# Altium footprint library C4.PcbLib: 2 footprints
Each footprint in its own frame and in the unit in brackets; x right, y up, seen from the top. Pads: shape width x height; smd on the part's side, far side on the other; paste and mask are expansions set on the pad; w line width, h text height; cw(c..) or ccw(c..) is an arc to the next point about the centre after c.
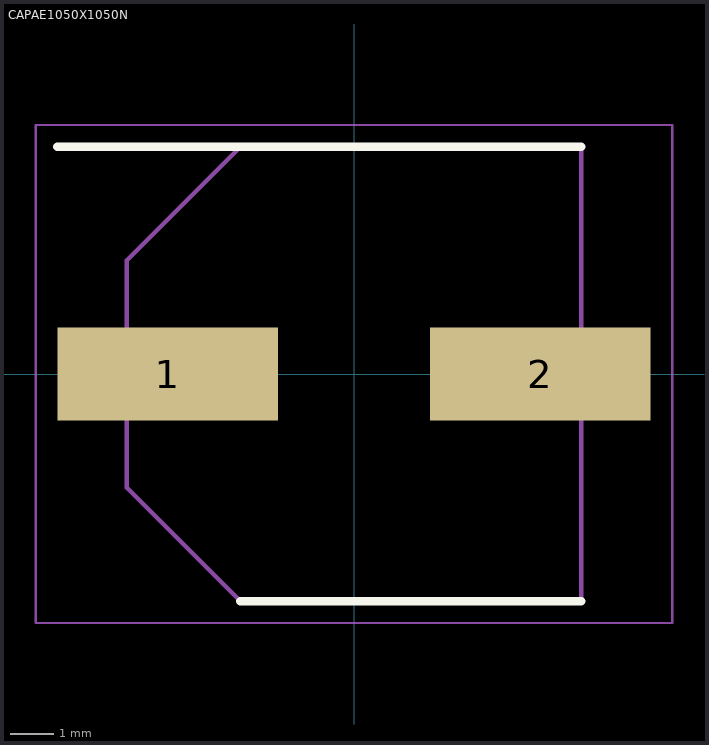
[diagram p0: the footprints below, top view; thin cyan lines are the x and y axes]

## CAPAE1050X1050N [mm]
pads (2):
  rect 5.1x2.15 smd: 1(-4.3,0) 2(4.3,0)
Top Overlay:
  lines w0.2: -6.85,5.25 5.25,5.25 ; -2.625,-5.25 5.25,-5.25
Mechanical 13:
  lines w0.1: -5.25,-2.625 -2.625,-5.25 5.25,-5.25 5.25,5.25 -2.625,5.25 -5.25,2.625 -5.25,-2.625
Mechanical 15:
  lines w0.05: -7.35,-5.75 -7.35,5.75 7.35,5.75 7.35,-5.75 -7.35,-5.75
3D body "MAL215097101E3.stp": height 10.5, standoff 0, extent -6.05,-5.25 6.05,5.25

## PCBComponent_1 [mm]